# Altium footprint library caps.PcbLib: 1 footprints
Each footprint in its own frame and in the unit in brackets; x right, y up, seen from the top. Pads: shape width x height; smd on the part's side, far side on the other; paste and mask are expansions set on the pad; w line width, h text height; cw(c..) or ccw(c..) is an arc to the next point about the centre after c.
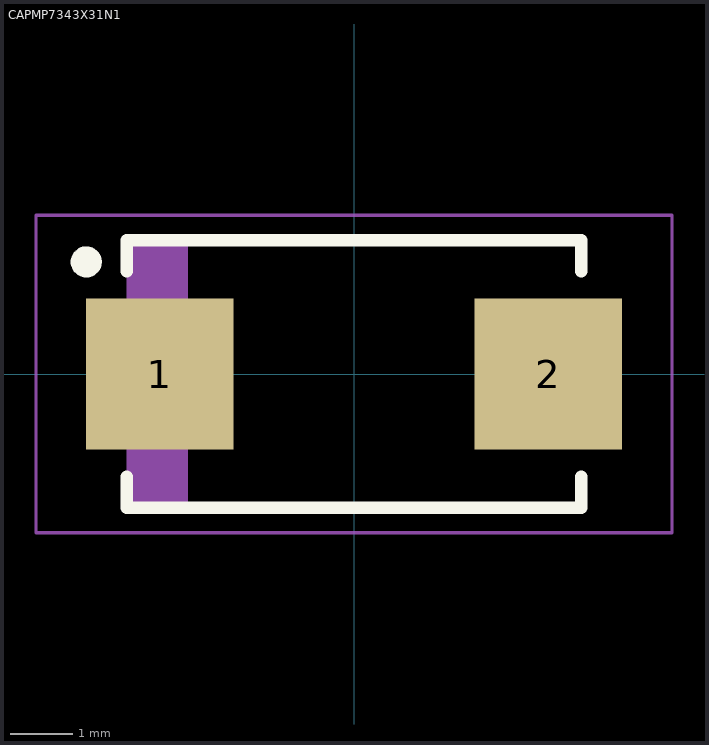
[diagram p0: the footprint, top view; thin cyan lines are the x and y axes]

## CAPMP7343X31N1 [mm] "Molded Capacitor, 2-Leads, Body 7.30x4.30mm, IPC Medium Density"
height 3.1
pads (2):
  rect 2.37x2.43 smd: 1(-3.12,0) 2(3.12,0)
Top Overlay:
  circle w0.25: c-4.3,1.8 r0.125
  lines w0.2: -3.65,-1.65 -3.65,-2.15 3.65,-2.15 3.65,-1.65 ; -3.65,1.65 -3.65,2.15 3.65,2.15 3.65,1.65
Mechanical 13:
  rectangle: -3.65,-2.15 -2.668,2.15
Mechanical 15:
  lines w0.05: -5.11,-2.55 5.11,-2.55 5.11,2.55 -5.11,2.55 -5.11,-2.55
3D body: height 3.1, standoff 0, extent -3.65,-2.15 3.65,2.15
3D body: height 3.1, standoff 0, extent -3.65,-2.15 3.65,2.15